# Altium footprint library PCB - POWER - SIP7.PCBLIB: 1 footprints
Each footprint in its own frame and in the unit in brackets; x right, y up, seen from the top. Pads: shape width x height; smd on the part's side, far side on the other; paste and mask are expansions set on the pad; w line width, h text height; cw(c..) or ccw(c..) is an arc to the next point about the centre after c.
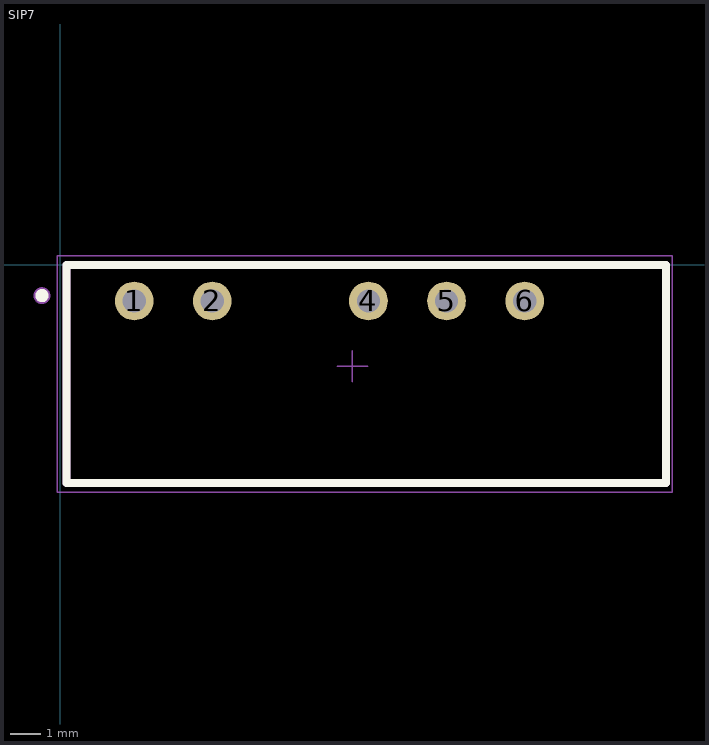
[diagram p0: the footprint, top view; thin cyan lines are the x and y axes]

## SIP7 [mm]
pads (5):
  round 1.26 hole 0.76: 1(2.4,-1.175) 2(4.94,-1.175) 4(10.02,-1.175) 5(12.56,-1.175) 6(15.1,-1.175)
Top Overlay:
  circle w0.254: c-0.6,-1 r0.088
  lines w0.254: 0.2,-7.1 0.2,0 19.7,0 19.7,-7.1 0.2,-7.1
Top Assembly:
  circle w0.15: c-0.6,-1 r0.2
  lines w0.254: 0.2,-7.1 0.2,0 19.7,0 19.7,-7.1 0.2,-7.1
Top Courtyard:
  lines w0.05: -0.1,-7.4 -0.1,0.3 19.9,0.3 19.9,-7.4 -0.1,-7.4
Top Designator:
  text ".Designator" at 0.802,1.1 h1.5
Top Component Center:
  lines w0.05: 9,-3.3 10,-3.3 ; 9.5,-3.8 9.5,-2.8
3D body "TMA_2405D.stp": height 10.12, standoff -3.28, extent 0.25,-7.1 19.75,0